# Altium schematic symbol library OH34N.SchLib: 1 symbol
Pins are listed as number, name and electrical type; pins without a type are passive.

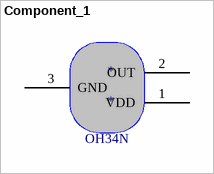
[diagram p0: symbol Component_1]

## Component_1
designator *
pins: 1 VDD, 2 OUT, 3 GND
text: OH34N